# EAGLE library part TPS61170 (library texas)
1.2A High Voltage Boost Converter
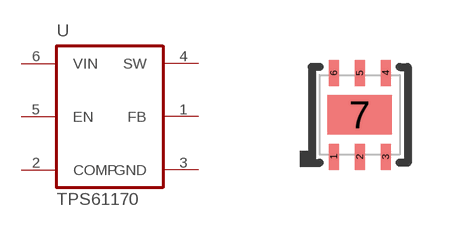
[diagram p64: symbol with the pads of WDFN-6; footprint WDFN-6]

Designator prefix U

## TPS61170  [WDFN-6]
1  FB  in
2  COMP  in
3  GND  pwr
4  SW  out
5  EN  in
6  VIN  in

## Footprint WDFN-6 (pad centres in mm)
WDFN-6 6-WSON Exposed Pad (2x2)
smd 0.25 x 0.65: 1 -0.65,-1.05; 2 0,-1.05; 3 0.65,-1.05; 4 0.65,1.05; 5 0,1.05; 6 -0.65,1.05
smd 1.6 x 0.991: 7 0,0